# EAGLE library part MINI-FIT_BMI_6 (library BlueBoard)
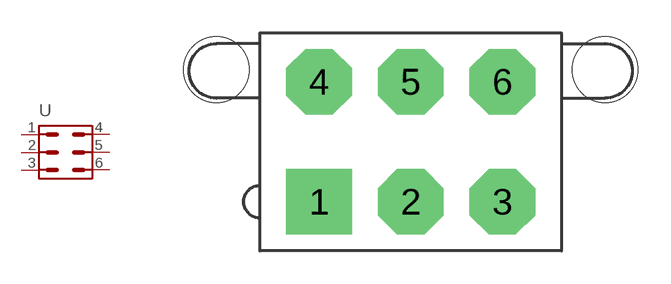
[diagram p12: symbol with the pads of MINI-FIT_BMI_6; footprint MINI-FIT_BMI_6]

Designator prefix -

## MINI-FIT_BMI_6  [MINI-FIT_BMI_6]
1  1
2  2
3  3
4  4
5  5
6  6

## Footprint MINI-FIT_BMI_6 (pad centres in mm)
drill 1.4 pad 3 square: 1 -4.2,-2.75
drill 1.4 pad 3 octagon: 2 0,-2.75; 3 4.2,-2.75; 4 -4.2,2.75; 5 0,2.75; 6 4.2,2.75
hole 3 at 8.9,3.31
hole 3 at -8.9,3.31